# Altium footprint library DF01S.PcbLib: 1 footprints
Each footprint in its own frame and in the unit in brackets; x right, y up, seen from the top. Pads: shape width x height; smd on the part's side, far side on the other; paste and mask are expansions set on the pad; w line width, h text height; cw(c..) or ccw(c..) is an arc to the next point about the centre after c.
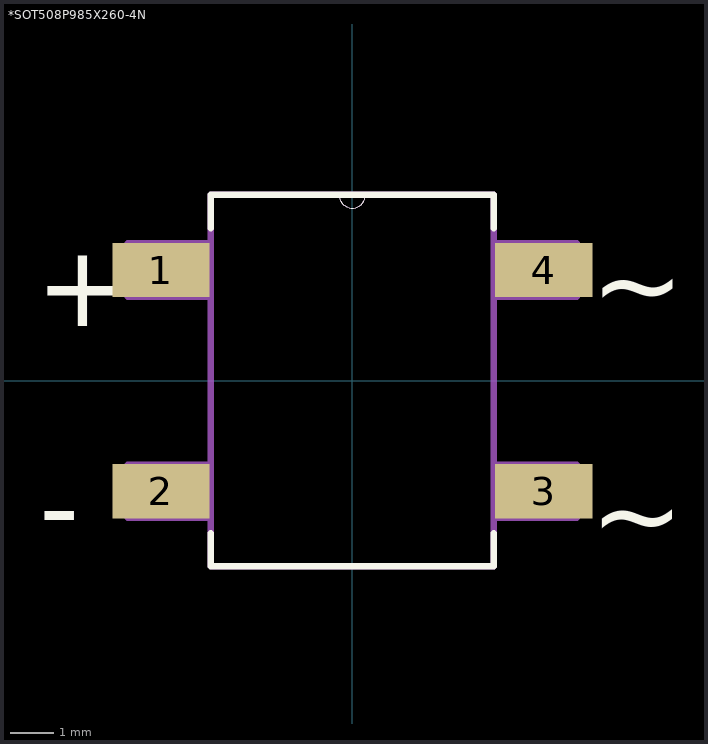
[diagram p0: the footprint, top view; thin cyan lines are the x and y axes]

## *SOT508P985X260-4N [mil]
pads (4):
  rect 88x49 smd: 1(-173,100) 2(-173,-100) 3(173,-100) 4(173,100)
Top Overlay:
  lines w0: -12,168 ccw(c0,168) 12,168
  lines w6: -128,-138 -128,-168 128,-168 128,-138 ; -128,138 -128,168 -12,168 12,168 128,168 128,138
  text "+" at -286.19,49.2 h73.82
  text "-" at -283.24,-149.96 h73.82
  text "~" at 215.41,51.27 h73.82
  text "~" at 215.22,-156.99 h73.82
Mechanical 13:
  lines w0: -12,168 ccw(c0,168) 12,168 cw(c0,168) -12,168
  lines w6: -203,-124 -128,-124 ; -203,-124 -203,-76 ; -203,-124 -128,-124 ; -203,-124 -203,-76 ; -203,-76 -128,-76 ; -203,-76 -128,-76 ; -203,76 -128,76 ; -203,76 -203,124 ; -203,76 -128,76 ; -203,76 -203,124 ; -203,124 -128,124 ; -203,124 -128,124 ; -128,-168 -128,168 ; -128,-168 128,-168 ; -128,-168 -128,168 ; -128,-168 128,-168 ; -128,-124 -128,-76 ; -128,-124 -128,-76 ; -128,76 -128,124 ; -128,76 -128,124 ; -128,168 -12,168 ; -128,168 -12,168 ; -12,168 12,168 ; -12,168 12,168 ; 12,168 128,168 ; 12,168 128,168 ; 128,-168 128,168 ; 128,-168 128,168 ; 128,-124 203,-124 ; 128,-124 128,-76 ; 128,-124 203,-124 ; 128,-124 128,-76 ; 128,-76 203,-76 ; 128,-76 203,-76 ; 128,76 203,76 ; 128,76 128,124 ; 128,76 203,76 ; 128,76 128,124 ; 128,124 203,124 ; 128,124 203,124 ; 203,-124 203,-76 ; 203,-124 203,-76 ; 203,76 203,124 ; 203,76 203,124
  text "+" at -286.22,47.2 h73.82
  text "-" at -283.36,-151.02 h73.82
  text "~" at 215.09,53.19 h73.82
  text "~" at 215.06,-157.88 h73.82
  text "+" at -286.22,47.2 h73.82
  text "-" at -283.36,-151.02 h73.82
  text "~" at 215.09,53.19 h73.82
  text "~" at 215.06,-157.88 h73.82